# Altium schematic symbol library SRD-05VDC-SL-C.SchLib: 1 symbol
Pins are listed as number, name and electrical type; pins without a type are passive.

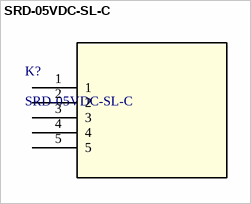
[diagram p0: symbol SRD-05VDC-SL-C]

## SRD-05VDC-SL-C
designator K?
Description; Manufacturer_Name: MCM Electronics; Copyright: Copyright (C) 2026 Ultra Librarian. All rights reserved.; Manufacturer_Part_Number: SRD-05VDC-SL-C; RefDes: RefDes; Type: Type
footprint RELAY_SRD-05VDC-SL-C_MCE
pins: 1, 2, 3, 4, 5